# Altium integrated library NSC Converter Analog to Digital.IntLib: 246 symbols (part 7 of 7)
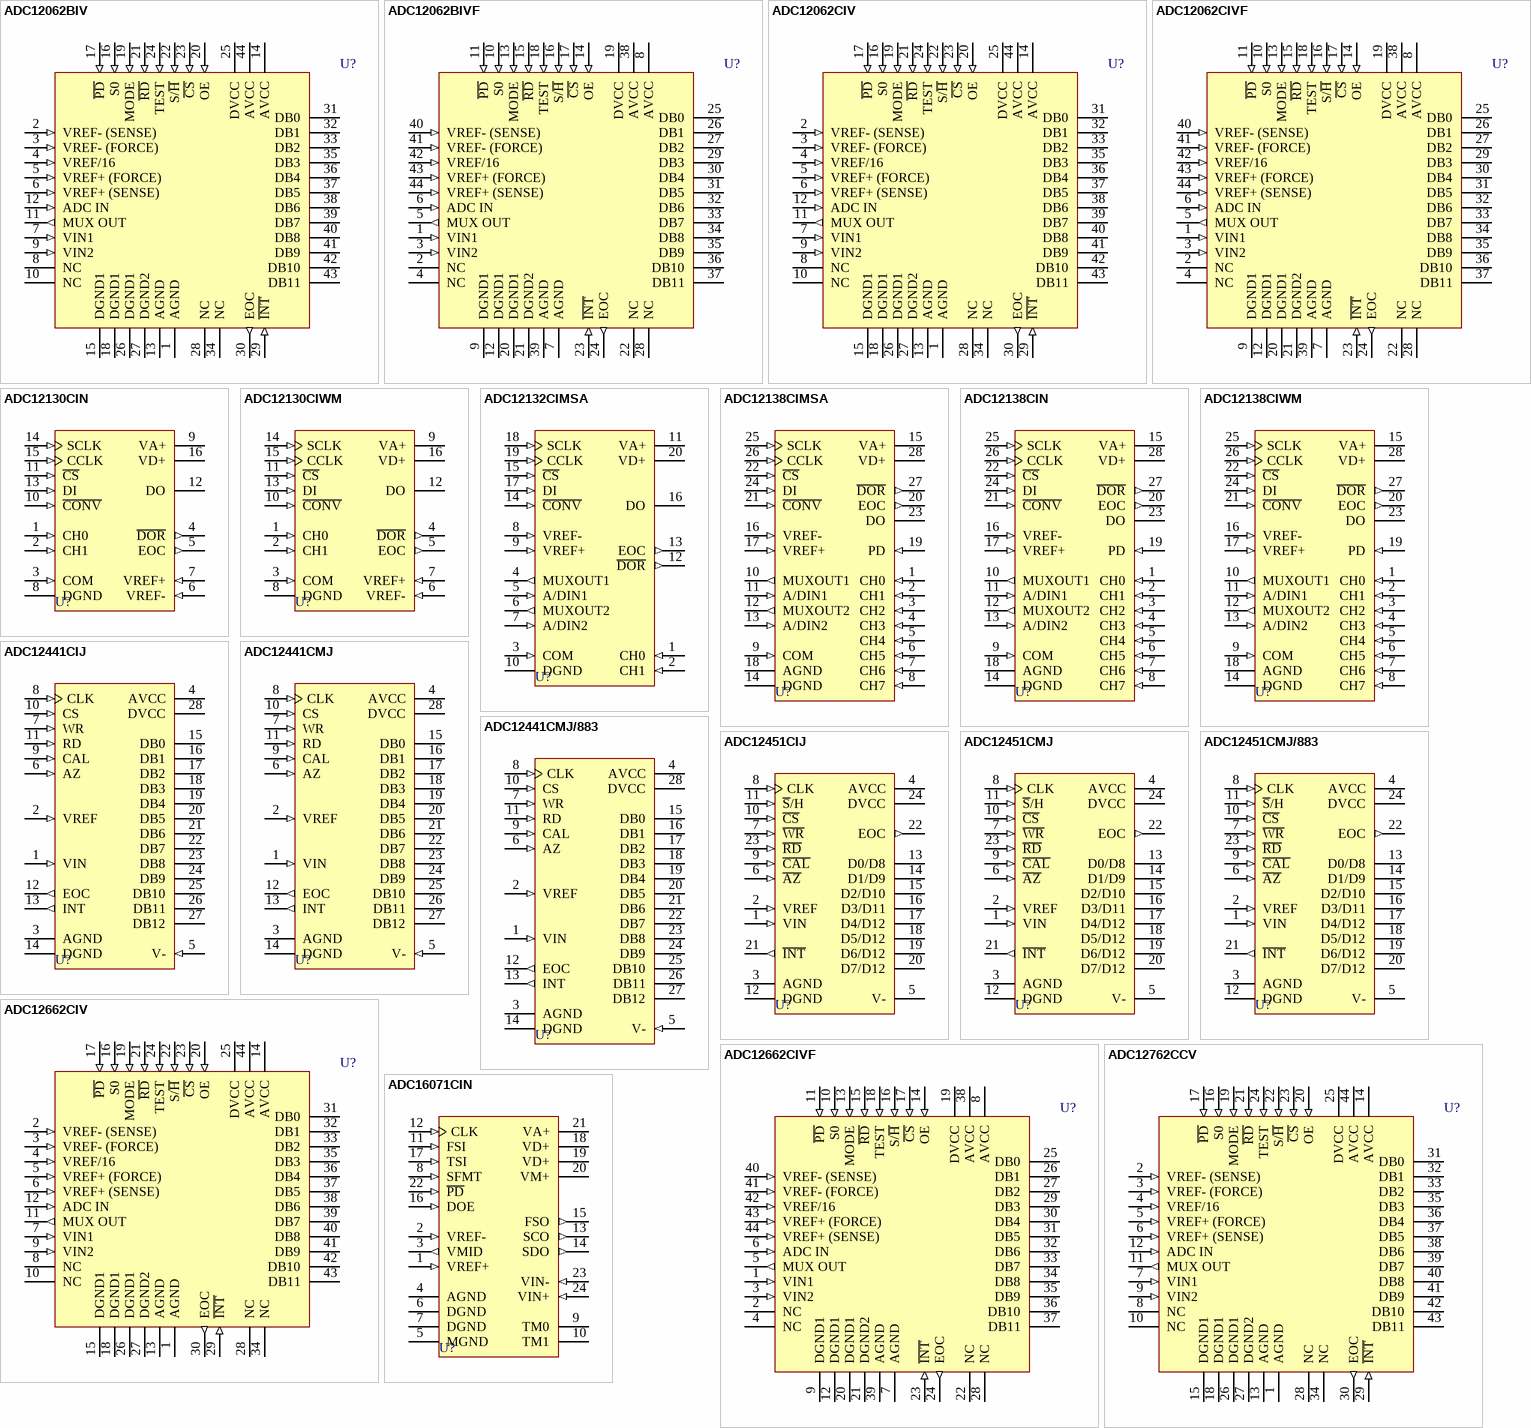
[diagram p15: symbols ADC12062BIV to ADC16071CIN]

## ADC12441CMJ
designator U?
Dynamically-Tested Self-Calibrating 12-Bit Plus Sign A/D Converter with Sample-and-Hold; ComponentAvailability: Obsolete; Published: 15-Apr-2002; LatestRevisionDate: 06-Jun-2005; LatestRevisionNote: Stylized 3D Model Added.; DatasheetVersion: Nov-1994; PackageVersion: 2000; PackageReference: J28A; Publisher: Altium Limited; PackageDescription: DIP; 28 Leads; Row Spacing 15.24 mm; Pitch 2.54 mm; ComponentLink1Description: Manufacturer Link; ComponentLink1URL: http://www.national.com/; ComponentLink2Description: Datasheet; ComponentLink2URL: http://www.national.com/ds.cgi/DC/ADC12441.pdf; ComponentLink3Description: Discontinuation Notice; ComponentLink3URL: http://www.national.com/obs/obsolescence.txt; ComponentLink4Description: URL Link1; ComponentLink4URL: http://www.national.com/pf/DC/ADC12441.html
footprint J28A (DIP; 28 Leads; Row Spacing 15.24 mm; Pitch 2.54 mm)
3D model J28A (DIP; 28 Leads; Row Spacing 15.24 mm; Pitch 2.54 mm)
pins: 1 VIN (in), 2 VREF (in), 3 AGND (power), 4 AVCC (power), 5 V- (in), 6 AZ (in), 7 WR (in), 8 CLK (in), 9 CAL (in), 10 CS (in), 11 RD (in), 12 EOC (out), 13 INT (out), 14 DGND (power), 15 DB0 (hiz), 16 DB1 (hiz), 17 DB2 (hiz), 18 DB3 (hiz), 19 DB4 (hiz), 20 DB5 (hiz), 21 DB6 (hiz), 22 DB7 (hiz), 23 DB8 (hiz), 24 DB9 (hiz), 25 DB10 (hiz), 26 DB11 (hiz), 27 DB12 (hiz), 28 DVCC (power)

## ADC12441CMJ/883
designator U?
Dynamically-Tested Self-Calibrating 12-Bit Plus Sign A/D Converter with Sample-and-Hold; Published: 15-Apr-2002; LatestRevisionDate: 06-Jun-2005; LatestRevisionNote: Stylized 3D Model Added.; DatasheetVersion: Nov-1994; PackageVersion: 2000; PackageReference: J28A; Publisher: Altium Limited; PackageDescription: DIP; 28 Leads; Row Spacing 15.24 mm; Pitch 2.54 mm; ComponentLink1Description: Manufacturer Link; ComponentLink1URL: http://www.national.com/; ComponentLink2Description: Datasheet; ComponentLink2URL: http://www.national.com/ds.cgi/DC/ADC12441.pdf; ComponentLink3Description: URL Link1; ComponentLink3URL: http://www.national.com/pf/DC/ADC12441.html
footprint J28A (DIP; 28 Leads; Row Spacing 15.24 mm; Pitch 2.54 mm)
3D model J28A (DIP; 28 Leads; Row Spacing 15.24 mm; Pitch 2.54 mm)
pins: 1 VIN (in), 2 VREF (in), 3 AGND (power), 4 AVCC (power), 5 V- (in), 6 AZ (in), 7 WR (in), 8 CLK (in), 9 CAL (in), 10 CS (in), 11 RD (in), 12 EOC (out), 13 INT (out), 14 DGND (power), 15 DB0 (hiz), 16 DB1 (hiz), 17 DB2 (hiz), 18 DB3 (hiz), 19 DB4 (hiz), 20 DB5 (hiz), 21 DB6 (hiz), 22 DB7 (hiz), 23 DB8 (hiz), 24 DB9 (hiz), 25 DB10 (hiz), 26 DB11 (hiz), 27 DB12 (hiz), 28 DVCC (power)

## ADC12451CIJ
designator U?
Dynamically-Tested Self-Calibrating 12-Bit Plus Sign A/D Converter with Sample-and-Hold; Published: 15-Apr-2002; LatestRevisionDate: 06-Jun-2005; LatestRevisionNote: Stylized 3D Model Added.; DatasheetVersion: Dec-1994; PackageVersion: 2000; PackageReference: J24A; Publisher: Altium Limited; PackageDescription: DIP; 24 Leads; Row Spacing 15.24 mm; Pitch 2.54 mm; ComponentLink1Description: Manufacturer Link; ComponentLink1URL: http://www.national.com/; ComponentLink2Description: Datasheet; ComponentLink2URL: http://www.national.com/ds.cgi/DC/ADC12451.pdf; ComponentLink3Description: URL Link1; ComponentLink3URL: http://www.national.com/pf/DC/ADC12451.html
footprint J24A (DIP; 24 Leads; Row Spacing 15.24 mm; Pitch 2.54 mm)
3D model J24A (DIP; 24 Leads; Row Spacing 15.24 mm; Pitch 2.54 mm)
pins: 1 VIN (in), 2 VREF (in), 3 AGND (power), 4 AVCC (power), 5 V- (power), 6 ~{AZ} (in), 7 ~{WR} (in), 8 CLK (in), 9 ~{CAL} (in), 10 ~{CS} (in), 11 ~{S}/H (in), 12 DGND (power), 13 D0/D8 (hiz), 14 D1/D9 (hiz), 15 D2/D10 (hiz), 16 D3/D11 (hiz), 17 D4/D12 (hiz), 18 D5/D12 (hiz), 19 D6/D12 (hiz), 20 D7/D12 (hiz), 21 ~{INT} (out), 22 EOC (out), 23 ~{RD} (in), 24 DVCC (power)

## ADC12451CMJ
designator U?
Dynamically-Tested Self-Calibrating 12-Bit Plus Sign A/D Converter with Sample-and-Hold; ComponentAvailability: Obsolete; Published: 15-Apr-2002; LatestRevisionDate: 06-Jun-2005; LatestRevisionNote: Stylized 3D Model Added.; DatasheetVersion: Dec-1994; PackageVersion: 2000; PackageReference: J24A; Publisher: Altium Limited; PackageDescription: DIP; 24 Leads; Row Spacing 15.24 mm; Pitch 2.54 mm; ComponentLink1Description: Manufacturer Link; ComponentLink1URL: http://www.national.com/; ComponentLink2Description: Datasheet; ComponentLink2URL: http://www.national.com/ds.cgi/DC/ADC12451.pdf; ComponentLink3Description: Discontinuation Notice; ComponentLink3URL: http://www.national.com/obs/obsolescence.txt; ComponentLink4Description: URL Link1; ComponentLink4URL: http://www.national.com/pf/DC/ADC12451.html
footprint J24A (DIP; 24 Leads; Row Spacing 15.24 mm; Pitch 2.54 mm)
3D model J24A (DIP; 24 Leads; Row Spacing 15.24 mm; Pitch 2.54 mm)
pins: 1 VIN (in), 2 VREF (in), 3 AGND (power), 4 AVCC (power), 5 V- (power), 6 ~{AZ} (in), 7 ~{WR} (in), 8 CLK (in), 9 ~{CAL} (in), 10 ~{CS} (in), 11 ~{S}/H (in), 12 DGND (power), 13 D0/D8 (hiz), 14 D1/D9 (hiz), 15 D2/D10 (hiz), 16 D3/D11 (hiz), 17 D4/D12 (hiz), 18 D5/D12 (hiz), 19 D6/D12 (hiz), 20 D7/D12 (hiz), 21 ~{INT} (out), 22 EOC (out), 23 ~{RD} (in), 24 DVCC (power)

## ADC12451CMJ/883
designator U?
Dynamically-Tested Self-Calibrating 12-Bit Plus Sign A/D Converter with Sample-and-Hold; Published: 15-Apr-2002; LatestRevisionDate: 06-Jun-2005; LatestRevisionNote: Stylized 3D Model Added.; DatasheetVersion: Dec-1994; PackageVersion: 2000; PackageReference: J24A; Publisher: Altium Limited; PackageDescription: DIP; 24 Leads; Row Spacing 15.24 mm; Pitch 2.54 mm; ComponentLink1Description: Manufacturer Link; ComponentLink1URL: http://www.national.com/; ComponentLink2Description: Datasheet; ComponentLink2URL: http://www.national.com/ds.cgi/DC/ADC12451.pdf; ComponentLink3Description: URL Link1; ComponentLink3URL: http://www.national.com/pf/DC/ADC12451.html
footprint J24A (DIP; 24 Leads; Row Spacing 15.24 mm; Pitch 2.54 mm)
3D model J24A (DIP; 24 Leads; Row Spacing 15.24 mm; Pitch 2.54 mm)
pins: 1 VIN (in), 2 VREF (in), 3 AGND (power), 4 AVCC (power), 5 V- (power), 6 ~{AZ} (in), 7 ~{WR} (in), 8 CLK (in), 9 ~{CAL} (in), 10 ~{CS} (in), 11 ~{S}/H (in), 12 DGND (power), 13 D0/D8 (hiz), 14 D1/D9 (hiz), 15 D2/D10 (hiz), 16 D3/D11 (hiz), 17 D4/D12 (hiz), 18 D5/D12 (hiz), 19 D6/D12 (hiz), 20 D7/D12 (hiz), 21 ~{INT} (out), 22 EOC (out), 23 ~{RD} (in), 24 DVCC (power)

## ADC12662CIV
designator U?
12-Bit, 1.5 MHz, 200 mW A/D Converter with Input Multiplexer and Sample/Hold; Note: Tie pin number 19 and 24 to digital VCC.; ComponentAvailability: Obsolete; Published: 15-Apr-2002; LatestRevisionDate: 13-Apr-2006; LatestRevisionNote: IPC-7351 Footprint Added.; DatasheetVersion: Jun-1999; PackageVersion: 2000; PackageReference: V44A; Publisher: Altium Limited; PackageDescription: 44-Pin Leaded Chip Carrier 1.27 mm Pitch; Code_IPC: PLCC-44; ComponentLink1Description: Manufacturer Link; ComponentLink1URL: http://www.national.com/; ComponentLink2Description: Datasheet; ComponentLink2URL: http://www.national.com/ds.cgi/DC/ADC12662.pdf; ComponentLink3Description: Discontinuation Notice; ComponentLink3URL: http://www.national.com/obs/obsolescence.txt; ComponentLink4Description: URL Link1; ComponentLink4URL: http://www.national.com/pf/DC/ADC12662.html
footprint V44A_N (Leaded Chip Carrier, 44-Leads, Body 16.6x16.6mm, Pitch 1.27mm, IPC Medium Density)
footprint V44A_L (Leaded Chip Carrier, 44-Leads, Body 16.6x16.6mm, Pitch 1.27mm, IPC High Density)
footprint V44A_M (Leaded Chip Carrier, 44-Leads, Body 16.6x16.6mm, Pitch 1.27mm, IPC Low Density)
3D model ADC12662-V44A (44-Pin Leaded Chip Carrier 1.27 mm Pitch)
pins: 1 AGND (power), 2 VREF- (SENSE) (in), 3 VREF- (FORCE) (in), 4 VREF/16 (in), 5 VREF+ (FORCE) (in), 6 VREF+ (SENSE) (in), 7 VIN1 (in), 8 NC, 9 VIN2 (in), 10 NC, 11 MUX OUT (out), 12 ADC IN (in), 13 AGND (power), 14 AVCC (power), 15 DGND1 (power), 16 S0 (in), 17 ~{PD} (in), 18 DGND1 (power), 19 MODE (in), 20 OE (in), 21 ~{RD} (in), 22 S/~{H} (in), 23 ~{CS} (in), 24 TEST (in), 25 DVCC (power), 26 DGND1 (power), 27 DGND2 (power), 28 NC, 29 ~{INT} (in), 30 EOC (out), 31 DB0 (hiz), 32 DB1 (hiz), 33 DB2 (hiz), 34 NC, 35 DB3 (hiz), 36 DB4 (hiz), 37 DB5 (hiz), 38 DB6 (hiz), 39 DB7 (hiz), 40 DB8 (hiz), 41 DB9 (hiz), 42 DB10 (hiz), 43 DB11 (hiz), 44 AVCC (power)

## ADC12662CIVF
designator U?
12-Bit, 1.5 MHz, 200 mW A/D Converter with Input Multiplexer and Sample/Hold; Note: Tie pin number 13 and 18 to digital VCC.; ComponentAvailability: Obsolete; Published: 15-Apr-2002; LatestRevisionDate: 13-Apr-2006; LatestRevisionNote: IPC-7351 Footprint Added.; DatasheetVersion: Jun-1999; PackageVersion: Jul-1995; PackageReference: VGZ44A; Publisher: Altium Limited; PackageDescription: 44-Pin Quad Flat Pack 0.8 mm Pitch; Code_JEDEC: MS-022-AB; Code_IPC: QFP80P1320X1320-44; ComponentLink1Description: Manufacturer Link; ComponentLink1URL: http://www.national.com/; ComponentLink2Description: Datasheet; ComponentLink2URL: http://www.national.com/ds.cgi/DC/ADC12662.pdf; ComponentLink3Description: Discontinuation Notice; ComponentLink3URL: http://www.national.com/obs/obsolescence.txt; ComponentLink4Description: URL Link1; ComponentLink4URL: http://www.national.com/pf/DC/ADC12662.html
footprint VGZ44A_N (QFP, 44-Leads, Body 10x10mm, Pitch 0.8mm, IPC Medium Density)
footprint VGZ44A_L (QFP, 44-Leads, Body 10x10mm, Pitch 0.8mm, IPC High Density)
footprint VGZ44A_M (QFP, 44-Leads, Body 10x10mm, Pitch 0.8mm, IPC Low Density)
3D model ADC12662-VGZ44A (44-Pin Quad Flat Pack 0.8 mm Pitch)
pins: 1 VIN1 (in), 2 NC, 3 VIN2 (in), 4 NC, 5 MUX OUT (out), 6 ADC IN (in), 7 AGND (power), 8 AVCC (power), 9 DGND1 (power), 10 S0 (in), 11 ~{PD} (in), 12 DGND1 (power), 13 MODE (in), 14 OE (in), 15 ~{RD} (in), 16 S/~{H} (in), 17 ~{CS} (in), 18 TEST (in), 19 DVCC (power), 20 DGND1 (power), 21 DGND2 (power), 22 NC, 23 ~{INT} (in), 24 EOC (out), 25 DB0 (hiz), 26 DB1 (hiz), 27 DB2 (hiz), 28 NC, 29 DB3 (hiz), 30 DB4 (hiz), 31 DB5 (hiz), 32 DB6 (hiz), 33 DB7 (hiz), 34 DB8 (hiz), 35 DB9 (hiz), 36 DB10 (hiz), 37 DB11 (hiz), 38 AVCC (power), 39 AGND (power), 40 VREF- (SENSE) (in), 41 VREF- (FORCE) (in), 42 VREF/16 (in), 43 VREF+ (FORCE) (in), 44 VREF+ (SENSE) (in)

## ADC12762CCV
designator U?
12-Bit, 1.4 MHz, 300 mW A/D Converter with Input Multiplexer and Sample/Hold; Note: Tie pin number 19 and 24 to digital VCC.; ComponentAvailability: Obsolete; Published: 15-Apr-2002; LatestRevisionDate: 13-Apr-2006; LatestRevisionNote: IPC-7351 Footprint Added.; DatasheetVersion: Jun-1999; PackageVersion: 2000; PackageReference: V44A; Publisher: Altium Limited; PackageDescription: 44-Pin Leaded Chip Carrier 1.27 mm Pitch; Code_IPC: PLCC-44; ComponentLink1Description: Manufacturer Link; ComponentLink1URL: http://www.national.com/; ComponentLink2Description: Datasheet; ComponentLink2URL: http://www.national.com/ds.cgi/DC/ADC12762.pdf; ComponentLink3Description: Discontinuation Notice; ComponentLink3URL: http://www.national.com/obs/obsolescence.txt; ComponentLink4Description: URL Link1; ComponentLink4URL: http://www.national.com/pf/DC/ADC12762.html
footprint V44A_N (Leaded Chip Carrier, 44-Leads, Body 16.6x16.6mm, Pitch 1.27mm, IPC Medium Density)
footprint V44A_L (Leaded Chip Carrier, 44-Leads, Body 16.6x16.6mm, Pitch 1.27mm, IPC High Density)
footprint V44A_M (Leaded Chip Carrier, 44-Leads, Body 16.6x16.6mm, Pitch 1.27mm, IPC Low Density)
3D model ADC12762-V44A (44-Pin Leaded Chip Carrier 1.27 mm Pitch)
pins: 1 AGND (power), 2 VREF- (SENSE) (in), 3 VREF- (FORCE) (in), 4 VREF/16 (in), 5 VREF+ (FORCE) (in), 6 VREF+ (SENSE) (in), 7 VIN1 (in), 8 NC, 9 VIN2 (in), 10 NC, 11 MUX OUT (out), 12 ADC IN (in), 13 AGND (power), 14 AVCC (power), 15 DGND1 (power), 16 S0 (in), 17 ~{PD} (in), 18 DGND1 (power), 19 MODE (in), 20 OE (in), 21 ~{RD} (in), 22 S/~{H} (in), 23 ~{CS} (in), 24 TEST (in), 25 DVCC (power), 26 DGND1 (power), 27 DGND2 (power), 28 NC, 29 ~{INT} (in), 30 EOC (out), 31 DB0 (hiz), 32 DB1 (hiz), 33 DB2 (hiz), 34 NC, 35 DB3 (hiz), 36 DB4 (hiz), 37 DB5 (hiz), 38 DB6 (hiz), 39 DB7 (hiz), 40 DB8 (hiz), 41 DB9 (hiz), 42 DB10 (hiz), 43 DB11 (hiz), 44 AVCC (power)

## ADC16071CIN
designator U?
16-Bit Delta-Sigma 192 ks/s Analog-to-Digital Converter; Note: Connect pin 9 and 10 to Digital Ground; ComponentAvailability: Obsolete; Published: 15-Apr-2002; LatestRevisionDate: 06-Jun-2005; LatestRevisionNote: Stylized 3D Model Added.; DatasheetVersion: Feb-1995; PackageVersion: 2000; PackageReference: N24C; Publisher: Altium Limited; PackageDescription: DIP; 24 Leads; Row Spacing 7.62 mm; Pitch 2.54 mm; Code_JEDEC: MS-001-AF; ComponentLink1Description: Manufacturer Link; ComponentLink1URL: http://www.national.com/; ComponentLink2Description: Datasheet; ComponentLink2URL: http://www.national.com/ds.cgi/DC/ADC16071.pdf; ComponentLink3Description: Discontinuation Notice; ComponentLink3URL: http://www.national.com/obs/obsolescence.txt; ComponentLink4Description: URL Link1; ComponentLink4URL: http://www.national.com/pf/DC/ADC16071.html
footprint N24C (DIP; 24 Leads; Row Spacing 7.62 mm; Pitch 2.54 mm)
3D model N24C (DIP; 24 Leads; Row Spacing 7.62 mm; Pitch 2.54 mm)
pins: 1 VREF+ (in), 2 VREF- (in), 3 VMID (out), 4 AGND (power), 5 MGND (power), 6 DGND (power), 7 DGND (power), 8 SFMT (in), 9 TM0, 10 TM1, 11 FSI (in), 12 CLK (in), 13 SCO (out), 14 SDO (out), 15 FSO (out), 16 DOE (in), 17 TSI (in), 18 VD+ (power), 19 VD+ (power), 20 VM+ (power), 21 VA+ (power), 22 ~{PD} (in), 23 VIN- (in), 24 VIN+ (in)

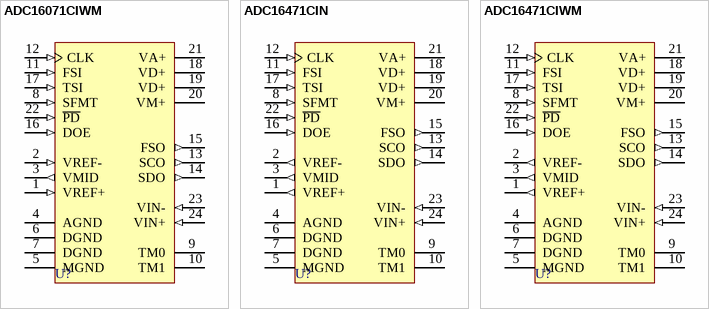
[diagram p9: symbols ADC16071CIWM to ADC16471CIWM]

## ADC16071CIWM
designator U?
16-Bit Delta-Sigma 192 ks/s Analog-to-Digital Converter; Note: Connect pin 9 and 10 to Digital Ground; ComponentAvailability: Obsolete; Published: 15-Apr-2002; LatestRevisionDate: 13-Apr-2006; LatestRevisionNote: IPC-7351 Footprint Added.; DatasheetVersion: Feb-1995; PackageVersion: 2000; PackageReference: M24B; Publisher: Altium Limited; PackageDescription: 24-Pin Small Outline Integrated Circuit 1.27 mm Pitch; ComponentLink1Description: Manufacturer Link; ComponentLink1URL: http://www.national.com/; ComponentLink2Description: Datasheet; ComponentLink2URL: http://www.national.com/ds.cgi/DC/ADC16071.pdf; ComponentLink3Description: Discontinuation Notice; ComponentLink3URL: http://www.national.com/obs/obsolescence.txt; ComponentLink4Description: URL Link1; ComponentLink4URL: http://www.national.com/pf/DC/ADC16071.html
footprint M24B_N (SOIC, 24-Leads, Body 15.4x7.5mm, Pitch 1.27mm, IPC Medium Density)
footprint M24B_L (SOIC, 24-Leads, Body 15.4x7.5mm, Pitch 1.27mm, IPC High Density)
footprint M24B_M (SOIC, 24-Leads, Body 15.4x7.5mm, Pitch 1.27mm, IPC Low Density)
3D model M24B (24-Pin Small Outline Integrated Circuit 1.27 mm Pitch)
pins: 1 VREF+ (in), 2 VREF- (in), 3 VMID (out), 4 AGND (power), 5 MGND (power), 6 DGND (power), 7 DGND (power), 8 SFMT (in), 9 TM0, 10 TM1, 11 FSI (in), 12 CLK (in), 13 SCO (out), 14 SDO (out), 15 FSO (out), 16 DOE (in), 17 TSI (in), 18 VD+ (power), 19 VD+ (power), 20 VM+ (power), 21 VA+ (power), 22 ~{PD} (in), 23 VIN- (in), 24 VIN+ (in)

## ADC16471CIN
designator U?
16-Bit Delta-Sigma 192 ks/s Analog-to-Digital Converter; Note: Connect pin 9 and 10 to Digital Ground; ComponentAvailability: Obsolete; Published: 15-Apr-2002; LatestRevisionDate: 06-Jun-2005; LatestRevisionNote: Stylized 3D Model Added.; DatasheetVersion: Feb-1995; PackageVersion: 2000; PackageReference: N24C; Publisher: Altium Limited; PackageDescription: DIP; 24 Leads; Row Spacing 7.62 mm; Pitch 2.54 mm; Code_JEDEC: MS-001-AF; ComponentLink1Description: Manufacturer Link; ComponentLink1URL: http://www.national.com/; ComponentLink2Description: Datasheet; ComponentLink2URL: http://www.national.com/ds.cgi/DC/ADC16071.pdf; ComponentLink3Description: Discontinuation Notice; ComponentLink3URL: http://www.national.com/obs/obsolescence.txt; ComponentLink4Description: URL Link1; ComponentLink4URL: http://www.national.com/pf/DC/ADC16471.html
footprint N24C (DIP; 24 Leads; Row Spacing 7.62 mm; Pitch 2.54 mm)
3D model N24C (DIP; 24 Leads; Row Spacing 7.62 mm; Pitch 2.54 mm)
pins: 1 VREF+ (out), 2 VREF- (out), 3 VMID (out), 4 AGND (power), 5 MGND (power), 6 DGND (power), 7 DGND (power), 8 SFMT (in), 9 TM0, 10 TM1, 11 FSI (in), 12 CLK (in), 13 SCO (out), 14 SDO (out), 15 FSO (out), 16 DOE (in), 17 TSI (in), 18 VD+ (power), 19 VD+ (power), 20 VM+ (power), 21 VA+ (power), 22 ~{PD} (in), 23 VIN- (in), 24 VIN+ (in)

## ADC16471CIWM
designator U?
16-Bit Delta-Sigma 192 ks/s Analog-to-Digital Converter; Note: Connect pin 9 and 10 to Digital Ground; ComponentAvailability: Obsolete; Published: 15-Apr-2002; LatestRevisionDate: 13-Apr-2006; LatestRevisionNote: IPC-7351 Footprint Added.; DatasheetVersion: Feb-1995; PackageVersion: 2000; PackageReference: M24B; Publisher: Altium Limited; PackageDescription: 24-Pin Small Outline Integrated Circuit 1.27 mm Pitch; ComponentLink1Description: Manufacturer Link; ComponentLink1URL: http://www.national.com/; ComponentLink2Description: Datasheet; ComponentLink2URL: http://www.national.com/ds.cgi/DC/ADC16071.pdf; ComponentLink3Description: Discontinuation Notice; ComponentLink3URL: http://www.national.com/obs/obsolescence.txt; ComponentLink4Description: URL Link1; ComponentLink4URL: http://www.national.com/pf/DC/ADC16471.html
footprint M24B_N (SOIC, 24-Leads, Body 15.4x7.5mm, Pitch 1.27mm, IPC Medium Density)
footprint M24B_L (SOIC, 24-Leads, Body 15.4x7.5mm, Pitch 1.27mm, IPC High Density)
footprint M24B_M (SOIC, 24-Leads, Body 15.4x7.5mm, Pitch 1.27mm, IPC Low Density)
3D model M24B (24-Pin Small Outline Integrated Circuit 1.27 mm Pitch)
pins: 1 VREF+ (out), 2 VREF- (out), 3 VMID (out), 4 AGND (power), 5 MGND (power), 6 DGND (power), 7 DGND (power), 8 SFMT (in), 9 TM0, 10 TM1, 11 FSI (in), 12 CLK (in), 13 SCO (out), 14 SDO (out), 15 FSO (out), 16 DOE (in), 17 TSI (in), 18 VD+ (power), 19 VD+ (power), 20 VM+ (power), 21 VA+ (power), 22 ~{PD} (in), 23 VIN- (in), 24 VIN+ (in)